# EAGLE library part RJ11-GANGED-4X (library Oles komponentbibliotek)
MOLEX RJ-11 4-Ganged
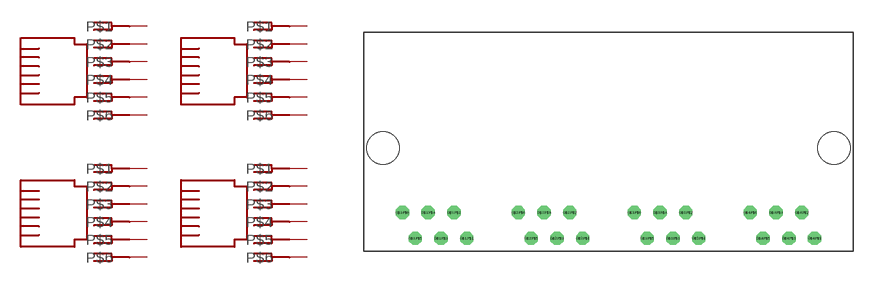
[diagram p16: symbol with the pads of RJ11-4-GANGED; footprint RJ11-4-GANGED]

Designator prefix -; gates G$1=RJ11 G$2=RJ11 G$3=RJ11 G$4=RJ11

## RJ11-GANGED-4X  [RJ11-4-GANGED]
G$1.P$1  G$1:P$1
G$1.P$2  G$1:P$2
G$1.P$3  G$1:P$3
G$1.P$4  G$1:P$4
G$1.P$5  G$1:P$5
G$1.P$6  G$1:P$6
G$2.P$1  G$2:P$1
G$2.P$2  G$2:P$2
G$2.P$3  G$2:P$3
G$2.P$4  G$2:P$4
G$2.P$5  G$2:P$5
G$2.P$6  G$2:P$6
G$3.P$1  G$3:P$1
G$3.P$2  G$3:P$2
G$3.P$3  G$3:P$3
G$3.P$4  G$3:P$4
G$3.P$5  G$3:P$5
G$3.P$6  G$3:P$6
G$4.P$1  G$4:P$1
G$4.P$2  G$4:P$2
G$4.P$3  G$4:P$3
G$4.P$4  G$4:P$4
G$4.P$5  G$4:P$5
G$4.P$6  G$4:P$6

## Footprint RJ11-4-GANGED (pad centres in mm)
MOLEX RJ-11 Connector 4-Ganged
drill 0.8 octagon: G$1.P$1 -13.97,-8.89; G$1.P$2 -15.24,-6.35; G$1.P$3 -16.51,-8.89; G$1.P$4 -17.78,-6.35; G$1.P$5 -19.05,-8.89; G$1.P$6 -20.32,-6.35; G$2.P$1 -2.54,-8.89; G$2.P$2 -3.81,-6.35; G$2.P$3 -5.08,-8.89; G$2.P$4 -6.35,-6.35; G$2.P$5 -7.62,-8.89; G$2.P$6 -8.89,-6.35; G$3.P$1 8.89,-8.89; G$3.P$2 7.62,-6.35; G$3.P$3 6.35,-8.89; G$3.P$4 5.08,-6.35; G$3.P$5 3.81,-8.89; G$3.P$6 2.54,-6.35; G$4.P$1 20.32,-8.89; G$4.P$2 19.05,-6.35; G$4.P$3 17.78,-8.89; G$4.P$4 16.51,-6.35; G$4.P$5 15.24,-8.89; G$4.P$6 13.97,-6.35
hole 3.2 at -22.225,0
hole 3.2 at 22.225,0